# Altium footprint library Nanjar's Connectors Library.PcbLib: 70 footprints (part 5 of 5)
Each footprint in its own frame and in the unit in brackets; x right, y up, seen from the top. Pads: shape width x height; smd on the part's side, far side on the other; paste and mask are expansions set on the pad; w line width, h text height; cw(c..) or ccw(c..) is an arc to the next point about the centre after c.
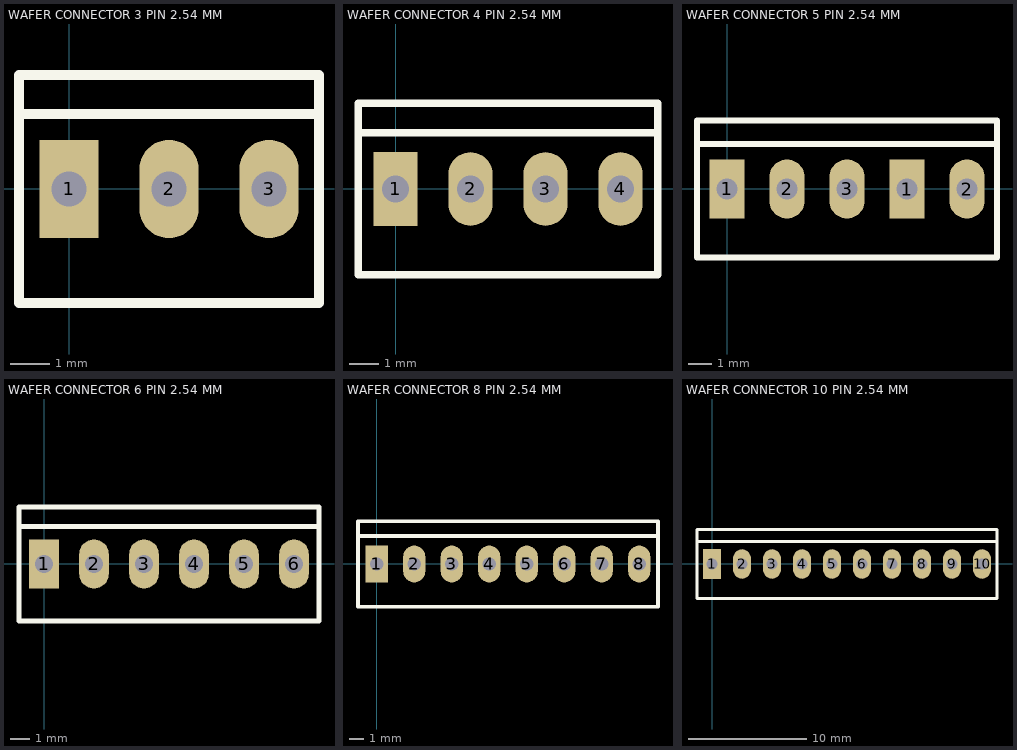
[diagram p4: the footprints below, top view; thin cyan lines are the x and y axes]

## WAFER CONNECTOR 3 PIN 2.54 MM [mm]
pads (3):
  rect 1.5x2.5 hole 0.9: 1(0,0)
  oval 1.5x2.5 hole 0.9: 2(2.54,0) 3(5.08,0)
Top Overlay:
  lines w0.254: 6.35,1.9 -1.27,1.9 -1.27,2.9 ; -1.27,2.9 -1.27,-2.9 6.35,-2.9 6.35,2.9 -1.27,2.9
3D body: height 8.5, standoff -3, extent 4.73,-0.35 5.43,0.35
3D body: height 8.5, standoff -3, extent 2.19,-0.35 2.89,0.35
3D body: height 8.5, standoff -3, extent -0.35,-0.35 0.35,0.35
3D body: height 2.5, standoff 0, extent -1.27,-2.921 6.35,2.9
3D body: height 11.7, standoff 0, extent 0,1.905 5.08,2.9

## WAFER CONNECTOR 4 PIN 2.54 MM [mm]
pads (4):
  rect 1.5x2.5 hole 0.9: 1(0,0)
  oval 1.5x2.5 hole 0.9: 2(2.54,0) 3(5.08,0) 4(7.62,0)
Top Overlay:
  lines w0.254: 8.89,1.9 -1.27,1.9 -1.27,2.9 ; -1.27,2.9 8.89,2.9 8.89,-2.9 -1.27,-2.9 -1.27,2.9
3D body: height 11.7, standoff 0, extent 0,1.905 7.62,2.9
3D body: height 2.5, standoff 0, extent -1.27,-2.921 8.89,2.9
3D body: height 8.5, standoff -3, extent -0.35,-0.35 0.35,0.35
3D body: height 8.5, standoff -3, extent 2.19,-0.35 2.89,0.35
3D body: height 8.5, standoff -3, extent 4.73,-0.35 5.43,0.35
3D body: height 8.5, standoff -3, extent 7.27,-0.35 7.97,0.35

## WAFER CONNECTOR 5 PIN 2.54 MM [mm]
pads (5):
  rect 1.5x2.5 hole 0.9: 1(0,0) 1(7.62,0)
  oval 1.5x2.5 hole 0.9: 2(2.54,0) 2(10.16,0) 3(5.08,0)
Top Overlay:
  lines w0.254: 11.43,1.9 -1.27,1.9 -1.27,2.9 ; -1.27,2.9 11.43,2.9 11.43,-2.9 -1.27,-2.9 -1.27,2.9
3D body: height 11.7, standoff 0, extent 5.08,1.905 7.62,2.9
3D body: height 11.7, standoff 0, extent 7.62,1.905 10.16,2.9
3D body: height 2.5, standoff 0, extent 6.35,-2.921 11.43,2.9
3D body: height 8.5, standoff -3, extent 7.27,-0.35 7.97,0.35
3D body: height 8.5, standoff -3, extent 9.81,-0.35 10.51,0.35
3D body: height 11.7, standoff 0, extent 0,1.905 5.08,2.9
3D body: height 2.5, standoff 0, extent -1.27,-2.921 6.35,2.9
3D body: height 8.5, standoff -3, extent -0.35,-0.35 0.35,0.35
3D body: height 8.5, standoff -3, extent 2.19,-0.35 2.89,0.35
3D body: height 8.5, standoff -3, extent 4.73,-0.35 5.43,0.35

## WAFER CONNECTOR 6 PIN 2.54 MM [mm]
pads (6):
  rect 1.5x2.5 hole 0.9: 1(0,0)
  oval 1.5x2.5 hole 0.9: 2(2.54,0) 3(5.08,0) 4(7.62,0) 5(10.16,0) 6(12.7,0)
Top Overlay:
  lines w0.254: 13.97,1.905 13.965,1.9 -1.27,1.9 -1.27,2.9 ; -1.27,2.9 13.97,2.9 13.97,-2.9 -1.27,-2.9 -1.27,2.9
3D body: height 11.7, standoff 0, extent 0,1.905 12.7,2.9
3D body: height 2.5, standoff 0, extent -1.27,-2.921 13.97,2.9
3D body: height 8.5, standoff -3, extent -0.35,-0.35 0.35,0.35
3D body: height 8.5, standoff -3, extent 2.19,-0.35 2.89,0.35
3D body: height 8.5, standoff -3, extent 4.73,-0.35 5.43,0.35
3D body: height 8.5, standoff -3, extent 9.81,-0.35 10.51,0.35
3D body: height 8.5, standoff -3, extent 7.27,-0.35 7.97,0.35
3D body: height 8.5, standoff -3, extent 12.35,-0.35 13.05,0.35

## WAFER CONNECTOR 8 PIN 2.54 MM [mm]
pads (8):
  rect 1.5x2.5 hole 0.9: 1(0,0)
  oval 1.5x2.5 hole 0.9: 2(2.54,0) 3(5.08,0) 4(7.62,0) 5(10.16,0) 6(12.7,0) 7(15.24,0) 8(17.78,0)
Top Overlay:
  lines w0.254: 19.05,1.9 -1.27,1.9 -1.27,2.9 ; -1.27,2.9 19.05,2.9 19.05,-2.9 -1.27,-2.9 -1.27,2.9
3D body: height 11.7, standoff 0, extent 0,1.905 17.78,2.9
3D body: height 2.5, standoff 0, extent -1.27,-2.921 19.05,2.9
3D body: height 8.5, standoff -3, extent -0.35,-0.35 0.35,0.35
3D body: height 8.5, standoff -3, extent 2.19,-0.35 2.89,0.35
3D body: height 8.5, standoff -3, extent 4.73,-0.35 5.43,0.35
3D body: height 8.5, standoff -3, extent 9.81,-0.35 10.51,0.35
3D body: height 8.5, standoff -3, extent 7.27,-0.35 7.97,0.35
3D body: height 8.5, standoff -3, extent 12.35,-0.35 13.05,0.35
3D body: height 8.5, standoff -3, extent 14.89,-0.35 15.59,0.35
3D body: height 8.5, standoff -3, extent 17.43,-0.35 18.13,0.35

## WAFER CONNECTOR 10 PIN 2.54 MM [mm]
pads (10):
  rect 1.5x2.5 hole 0.9: 1(0,0)
  oval 1.5x2.5 hole 0.9: 2(2.54,0) 3(5.08,0) 4(7.62,0) 5(10.16,0) 6(12.7,0) 7(15.24,0) 8(17.78,0) 9(20.32,0) 10(22.86,0)
Top Overlay:
  lines w0.254: 24.13,1.9 -1.27,1.9 -1.27,2.9 ; -1.27,2.9 24.13,2.9 24.13,-2.9 -1.27,-2.9 -1.27,2.9
3D body: height 11.7, standoff 0, extent 0,1.905 22.86,2.9
3D body: height 2.5, standoff 0, extent -1.27,-2.921 24.13,2.9
3D body: height 8.5, standoff -3, extent -0.35,-0.35 0.35,0.35
3D body: height 8.5, standoff -3, extent 2.19,-0.35 2.89,0.35
3D body: height 8.5, standoff -3, extent 4.73,-0.35 5.43,0.35
3D body: height 8.5, standoff -3, extent 9.81,-0.35 10.51,0.35
3D body: height 8.5, standoff -3, extent 7.27,-0.35 7.97,0.35
3D body: height 8.5, standoff -3, extent 12.35,-0.35 13.05,0.35
3D body: height 8.5, standoff -3, extent 14.89,-0.35 15.59,0.35
3D body: height 8.5, standoff -3, extent 17.43,-0.35 18.13,0.35
3D body: height 8.5, standoff -3, extent 22.51,-0.35 23.21,0.35
3D body: height 8.5, standoff -3, extent 19.97,-0.35 20.67,0.35